# Altium footprint library SSSS212400.PcbLib: 1 footprints
Each footprint in its own frame and in the unit in brackets; x right, y up, seen from the top. Pads: shape width x height; smd on the part's side, far side on the other; paste and mask are expansions set on the pad; w line width, h text height; cw(c..) or ccw(c..) is an arc to the next point about the centre after c.
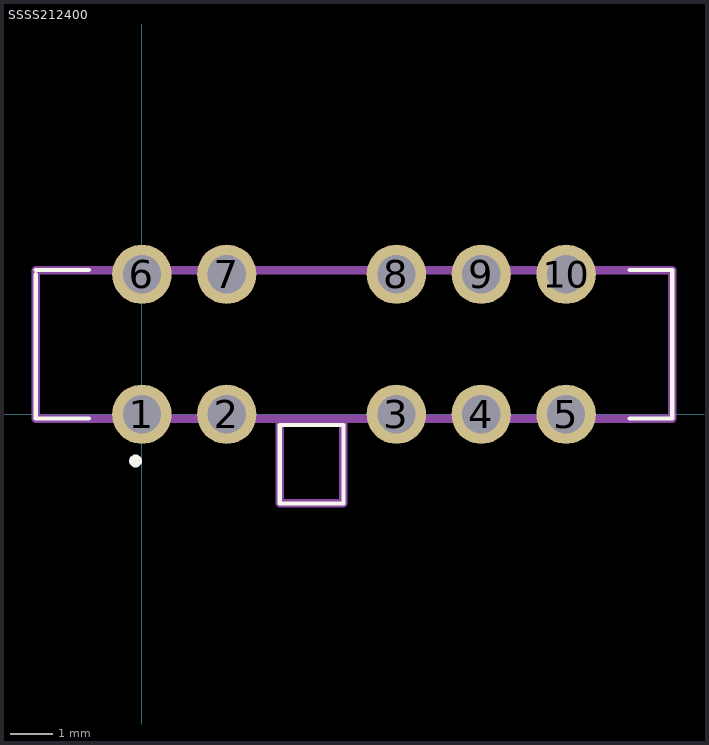
[diagram p0: the footprint, top view; thin cyan lines are the x and y axes]

## SSSS212400 [mm]
pads (10):
  round 1.4 hole 0.9: 1(0,0) 2(2,0) 3(6,0) 4(8,0) 5(10,0) 6(0,3.3) 7(2,3.3) 8(6,3.3) 9(8,3.3) 10(10,3.3)
Top Overlay:
  lines w0.1: -2.5,-0.1 -2.5,3.3 -2.5,-0.1 ; -2.5,-0.1 -1.25,-0.1 -2.5,-0.1 ; 12.5,-0.1 12.5,3.4 ; 12.5,-0.1 12.5,3.4 ; 12.5,-0.1 11.5,-0.1 12.5,-0.1 ; 12.5,3.4 11.5,3.4 12.5,3.4 ; -2.5,3.4 -1.25,3.4 -2.5,3.4 ; 3.25,-2.1 3.25,-0.25 4.75,-0.25 4.75,-2.1 3.25,-2.1
  lines w0.2: -0.2,-1.1 ccw(c-0.15,-1.1) -0.1,-1.1 ; -0.2,-1.1 cw(c-0.15,-1.1) -0.1,-1.1 ; -0.2,-1.1 ccw(c-0.15,-1.1) -0.1,-1.1
Mechanical 13:
  lines w0.2: -2.5,-0.1 -2.5,3.4 12.5,3.4 12.5,-0.1 -2.5,-0.1 ; 3.25,-2.1 3.25,-0.1 4.75,-0.1 4.75,-2.1 3.25,-2.1
3D body "SSSS212400.stp": height 3.6, standoff -5, extent -2.5,-2.1 12.5,3.649